# EAGLE library part NCP186BMX330TAG (library host)
LDO Voltage Regulators FAST TRANSIENT RESPO Source: Datasheet <http://www.onsemi.com/pub/Collateral/NCP186-D.PDF>
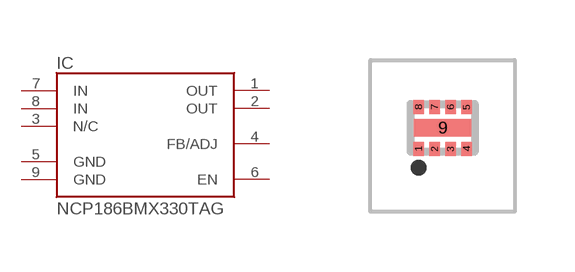
[diagram p6: symbol with the pads of NCP186AMX330TAG; footprint NCP186AMX330TAG]

Designator prefix IC

## NCP186BMX330TAG (ARROW_PART_NUMBER: NCP186BMX330TAG; ARROW_PRICE-STOCK: https://www.arrow.com/en/products/ncp186bmx330tag/on-semiconductor?region=nac; DESCRIPTION: LDO Voltage Regulators FAST TRANSIENT RESPO; HEIGHT: mm; MANUFACTURER_NAME: ON Semiconductor; MANUFACTURER_PART_NUMBER: NCP186BMX330TAG; MOUSER_PART_NUMBER: 863-NCP186BMX330TAG; MOUSER_PRICE-STOCK: https://www.mouser.co.uk/ProductDetail/onsemi/NCP186BMX330TAG?qs=tCMd4XlZ%2FiDuLBXmI4EY0w%3D%3D)  [NCP186AMX330TAG]
1  OUT
2  OUT
3  N/C  nc
4  FB/ADJ
5  GND
6  EN
7  IN
8  IN
9  GND

## Footprint NCP186AMX330TAG (pad centres in mm)
XDFN8 1.6x1.2 0.4P CASE 711AS
smd 0.26 x 0.35: 1 -0.6,-0.275; 2 -0.2,-0.275; 3 0.2,-0.275; 4 0.6,-0.275; 5 0.6,0.775; 6 0.2,0.775; 7 -0.2,0.775; 8 -0.6,0.775
smd 1.44 x 0.44: 9 0,0.25